# Altium footprint library D2PakMosfet2.PcbLib: 2 footprints
Each footprint in its own frame and in the unit in brackets; x right, y up, seen from the top. Pads: shape width x height; smd on the part's side, far side on the other; paste and mask are expansions set on the pad; w line width, h text height; cw(c..) or ccw(c..) is an arc to the next point about the centre after c.
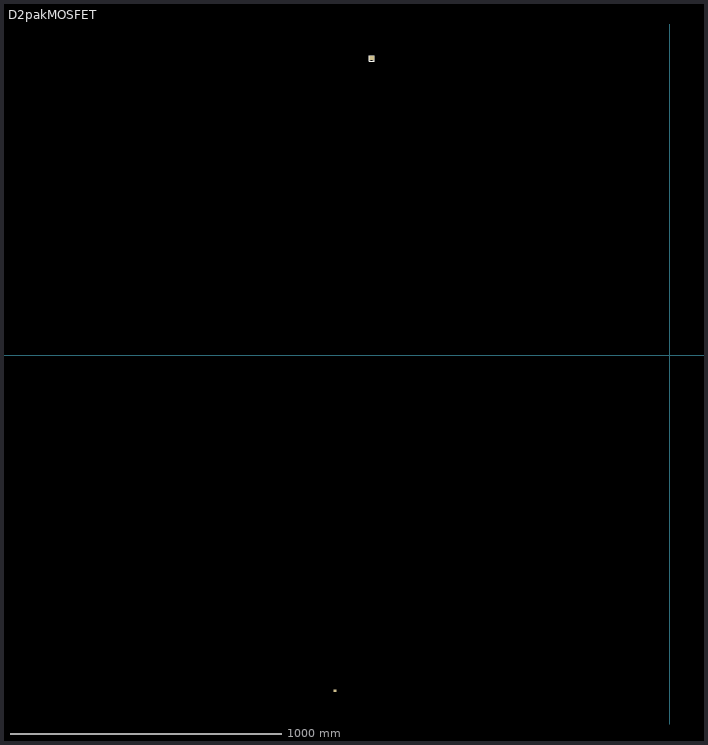
[diagram p0: the footprints below, top view; thin cyan lines are the x and y axes]

## D2pakMOSFET [mil]
pads (4):
  rect 430x380 all layers, no hole: 0(-48540,-48650)
  rect 57x125 all layers, no hole: 1(-43290,42765) 1(-43095,42765)
  rect 640x560 all layers, no hole: 9(-43190,43160)
Top Overlay:
  lines w10: -43550,43325 -42835,43325 ; -43550,43380 -43550,43475 -42830,43475 -42830,42700 -43545,42700 -43550,42705 -43550,43450 ; -43405,42835 -43405,43325 ; -43000,42835 -43000,43325

## PCBComponent_1 [mil]